# Altium schematic symbol library 2017_LEVI.SchLib: 6 symbols
Pins are listed as number, name and electrical type; pins without a type are passive.

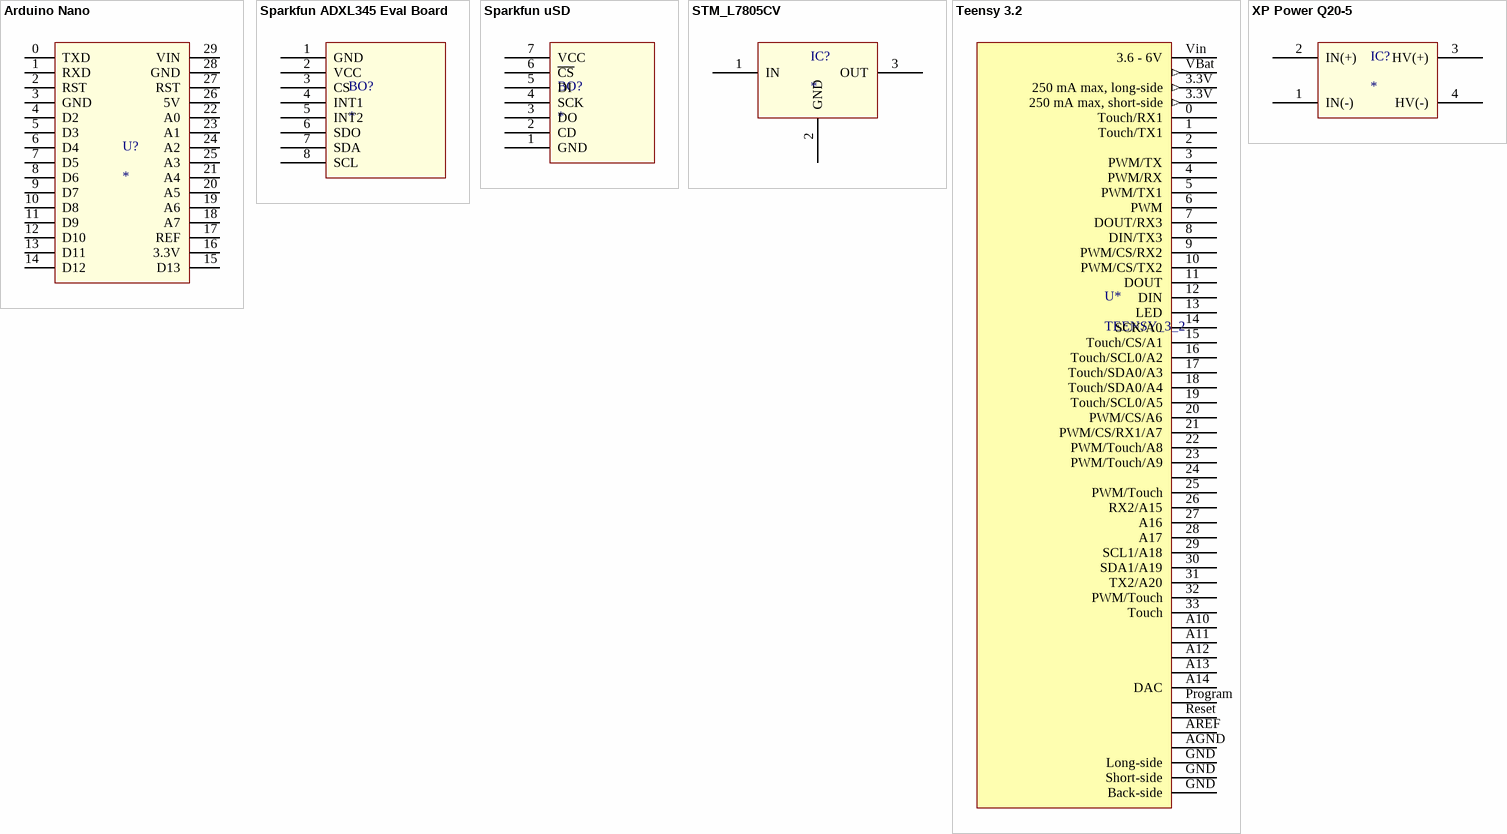
[diagram p0: symbols Arduino Nano to XP Power Q20-5]

## Arduino Nano
designator U?
footprint Arduino Nano
pins: 0 TXD, 1 RXD, 2 RST, 3 GND, 4 D2, 5 D3, 6 D4, 7 D5, 8 D6, 9 D7, 10 D8, 11 D9, 12 D10, 13 D11, 14 D12, 15 D13, 16 3.3V, 17 REF, 18 A7, 19 A6, 20 A5, 21 A4, 22 A0, 23 A1, 24 A2, 25 A3, 26 5V, 27 RST, 28 GND, 29 VIN

## Sparkfun ADXL345 Eval Board
designator BO?
footprint Sparkfun ADXL345 Breakout
pins: 1 GND, 2 VCC, 3 CS, 4 INT1, 5 INT2, 6 SDO, 7 SDA, 8 SCL

## Sparkfun uSD
designator BO?
footprint Sparkfun MicroSD Breakout
pins: 1 GND, 2 CD, 3 DO, 4 SCK, 5 DI, 6 ~{CS}, 7 VCC

## STM_L7805CV
designator IC?
pins: 1 IN, 2 GND, 3 OUT

## Teensy 3.2
designator U*, comment TEENSY_3_2
pins: 0 Touch/RX1, 1 Touch/TX1, 2, 3 PWM/TX, 3.3V 250 mA max, long-side (out), 3.3V 250 mA max, short-side (out), 4 PWM/RX, 5 PWM/TX1, 6 PWM, 7 DOUT/RX3, 8 DIN/TX3, 9 PWM/CS/RX2, 10 PWM/CS/TX2, 11 DOUT, 12 DIN, 13 LED, 14 SCK/A0, 15 Touch/CS/A1, 16 Touch/SCL0/A2, 17 Touch/SDA0/A3, 18 Touch/SDA0/A4, 19 Touch/SCL0/A5, 20 PWM/CS/A6, 21 PWM/CS/RX1/A7, 22 PWM/Touch/A8, 23 PWM/Touch/A9, 24, 25 PWM/Touch, 26 RX2/A15, 27 A16, 28 A17, 29 SCL1/A18, 30 SDA1/A19, 31 TX2/A20, 32 PWM/Touch, 33 Touch, A10, A11, A12, A13, A14 DAC, AGND, AREF, GND Long-side, GND Short-side, GND Back-side, Program, Reset, VBat (out), Vin 3.6 - 6V (power)

## XP Power Q20-5
designator IC?
pins: 1 IN(-), 2 IN(+), 3 HV(+), 4 HV(-)